# Altium schematic symbol library TS02-66-50-BK-260-LCR-D.SchLib: 1 symbol
Pins are listed as number, name and electrical type; pins without a type are passive.

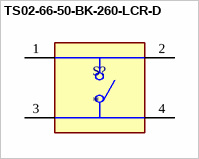
[diagram p0: symbol TS02-66-50-BK-260-LCR-D]

## TS02-66-50-BK-260-LCR-D
designator S?
6 x 6 mm, 5 mm Actuator Height, 260 gf, Black, Long Crimped, Through Hole, SPST, Tactile Switch; MF: Same Sky; MP: TS02-66-50-BK-260-LCR-D; SnapEDA_Link: https://www.snapeda.com/parts/TS02-66-50-BK-260-LCR-D/Same+Sky/view-part/?ref=snap; Package: None; Value: *; Check_prices: https://www.snapeda.com/parts/TS02-66-50-BK-260-LCR-D/Same+Sky/view-part/?ref=eda
footprint SW_TS02-66-50-BK-260-LCR-D
pins: 1, 2, 3, 4